# EAGLE library part INA125P (library ventilator)
INSTRUMENTATION AMPLIFIER
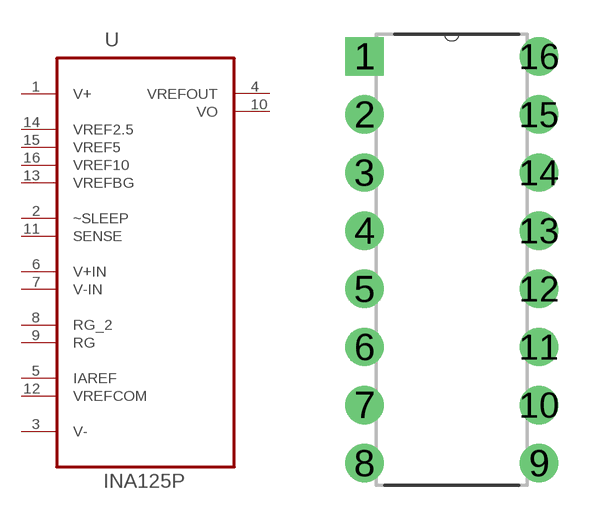
[diagram p2: symbol with the pads of DIP254P762X508-16; footprint DIP254P762X508-16]

Designator prefix U

## INA125P (AVAILABILITY: Unavailable; DESCRIPTION: Instrumentation Amplifier 1 Circuit 16-PDIP; MF: Texas Instruments; MP: INA125P; PACKAGE: DIP-16 Burr Brown; PRICE: None)  [DIP254P762X508-16]
1  V+  pwr
2  ~SLEEP  pas
3  V-  pwr
4  VREFOUT  out
5  IAREF  pas
6  V+IN  pwr
7  V-IN  pwr
8  RG_2  pas
9  RG  pas
10  VO  out
11  SENSE  in
12  VREFCOM  pas
13  VREFBG  pwr
14  VREF2.5  pwr
15  VREF5  pwr
16  VREF10  pwr

## Footprint DIP254P762X508-16 (pad centres in mm)
drill 1.118 square: 1 -7.62,17.78
drill 1.118: 2 -7.62,15.24; 3 -7.62,12.7; 4 -7.62,10.16; 5 -7.62,7.62; 6 -7.62,5.08; 7 -7.62,2.54; 8 -7.62,0; 9 0,0; 10 0,2.54; 11 0,5.08; 12 0,7.62; 13 0,10.16; 14 0,12.7; 15 0,15.24; 16 0,17.78